# Altium footprint library 1825_C.PcbLib: 1 footprints
Each footprint in its own frame and in the unit in brackets; x right, y up, seen from the top. Pads: shape width x height; smd on the part's side, far side on the other; paste and mask are expansions set on the pad; w line width, h text height; cw(c..) or ccw(c..) is an arc to the next point about the centre after c.
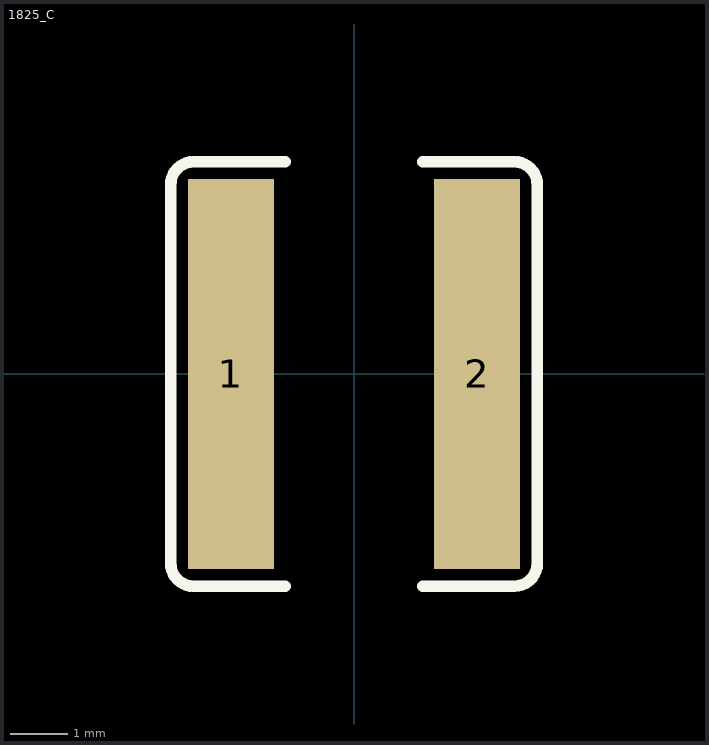
[diagram p0: the footprint, top view; thin cyan lines are the x and y axes]

## 1825_C [mm]
pads (2):
  rect 1.5x6.81 smd: 1(-2.15,0) 2(2.15,0)
Top Overlay:
  lines w0.203: -1.2,-3.705 -2.8,-3.705 cw(c-2.8,-3.305) -3.2,-3.305 -3.2,3.305 cw(c-2.8,3.305) -2.8,3.705 -1.2,3.705 ; 1.2,-3.705 2.8,-3.705 ccw(c2.8,-3.305) 3.2,-3.305 3.2,3.305 ccw(c2.8,3.305) 2.8,3.705 1.2,3.705
3D body: height 1.3, standoff 0, extent -2.25,-3.2 2.25,3.2